# Altium integrated library MOC3021.IntLib: 1 symbol
Pins are listed as number, name and electrical type; pins without a type are passive.

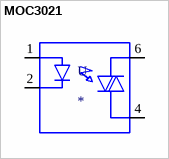
[diagram p0: symbol MOC3021]

## MOC3021
designator U
Optoisolator Triac Output 5000Vrms 1 Channel 6-DIP; MP: MOC3021; MF: Lite-On; SnapEDA_Link: https://www.snapeda.com/parts/MOC3021/Lite-On/view-part/4551083/?ref=snap; Availability: Unavailable; Package: DIP-6 Lite-On; Value: *; Price: None
footprint DIP762W45P254L889H508Q6
pins: 1 ANODE, 2 CATODE, 4 MAIN_TERM2, 6 MAIN_TERM1